# Altium footprint library TSOP (~0.6mm Pitch).PcbLib: 22 footprints (part 2 of 2)
Each footprint in its own frame and in the unit in brackets; x right, y up, seen from the top. Pads: shape width x height; smd on the part's side, far side on the other; paste and mask are expansions set on the pad; w line width, h text height; cw(c..) or ccw(c..) is an arc to the next point about the centre after c.
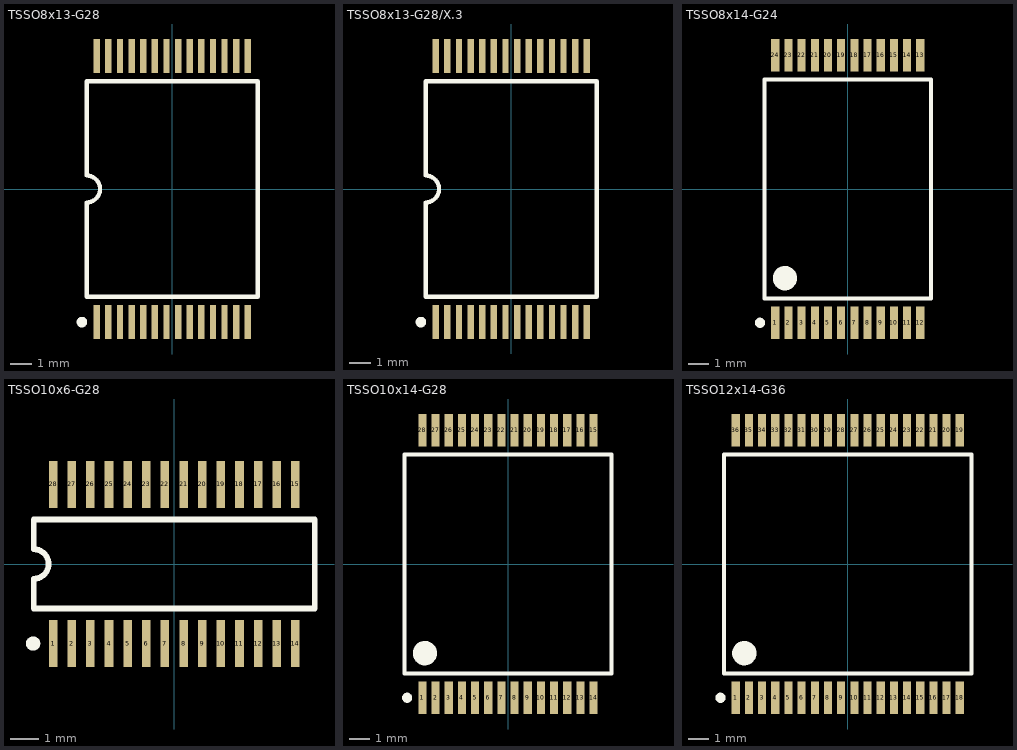
[diagram p1: the footprints below, top view; thin cyan lines are the x and y axes]

## TSSO8x13-G28 [mm] "Shrink Small Outline; 28 Leads; Body Width 11.8 mm; Pitch 0.55 mm"
height 1.2
pads (28):
  rect 0.3x1.6 smd: 1(-3.575,-6.3) 2(-3.025,-6.3) 3(-2.475,-6.3) 4(-1.925,-6.3) 5(-1.375,-6.3) 6(-0.825,-6.3) 7(-0.275,-6.3) 8(0.275,-6.3) 9(0.825,-6.3) 10(1.375,-6.3) 11(1.925,-6.3) 12(2.475,-6.3) 13(3.025,-6.3) 14(3.575,-6.3) 15(3.575,6.3) 16(3.025,6.3) 17(2.475,6.3) 18(1.925,6.3) 19(1.375,6.3) 20(0.825,6.3) 21(0.275,6.3) 22(-0.275,6.3) 23(-0.825,6.3) 24(-1.375,6.3) 25(-1.925,6.3) 26(-2.475,6.3) 27(-3.025,6.3) 28(-3.575,6.3)
Top Overlay:
  circle w0.25: c-4.275,-6.3 r0.125
  lines w0.2: -4.05,-5.1 -4.05,-0.635 ccw(c-4.05,0) -4.05,0.635 -4.05,5.1 4.05,5.1 4.05,-5.1 -4.05,-5.1

## TSSO8x13-G28/X.3 [mm] "Shrink Small Outline, Plastic, Thin; 28 Leads; Body Width 11.8 mm; Pitch 0.55 mm"
height 1.2
pads (28):
  rect 0.3x1.6 smd: 1(0.275,-6.3) 2(0.825,-6.3) 3(1.375,-6.3) 4(1.925,-6.3) 5(2.475,-6.3) 6(3.025,-6.3) 7(3.575,-6.3) 8(3.575,6.3) 9(3.025,6.3) 10(2.475,6.3) 11(1.925,6.3) 12(1.375,6.3) 13(0.825,6.3) 14(0.275,6.3) 15(-0.275,6.3) 16(-0.825,6.3) 17(-1.375,6.3) 18(-1.925,6.3) 19(-2.475,6.3) 20(-3.025,6.3) 21(-3.575,6.3) 22(-3.575,-6.3) 23(-3.025,-6.3) 24(-2.475,-6.3) 25(-1.925,-6.3) 26(-1.375,-6.3) 27(-0.825,-6.3) 28(-0.275,-6.3)
Top Overlay:
  circle w0.25: c-4.275,-6.3 r0.125
  lines w0.2: -4.05,-5.1 -4.05,-0.635 ccw(c-4.05,0) -4.05,0.635 -4.05,5.1 4.05,5.1 4.05,-5.1 -4.05,-5.1

## TSSO8x14-G24 [mm] "Shrink Small Outline; 24 Leads; Body Width 12.4 mm; Pitch 0.65 mm"
height 1.27
pads (24):
  rect 0.4x1.6 smd: 1(-3.575,-6.6) 2(-2.925,-6.6) 3(-2.275,-6.6) 4(-1.625,-6.6) 5(-0.975,-6.6) 6(-0.325,-6.6) 7(0.325,-6.6) 8(0.975,-6.6) 9(1.625,-6.6) 10(2.275,-6.6) 11(2.925,-6.6) 12(3.575,-6.6) 13(3.575,6.6) 14(2.925,6.6) 15(2.275,6.6) 16(1.625,6.6) 17(0.975,6.6) 18(0.325,6.6) 19(-0.325,6.6) 20(-0.975,6.6) 21(-1.625,6.6) 22(-2.275,6.6) 23(-2.925,6.6) 24(-3.575,6.6)
Top Overlay:
  circle w0.6: c-3.1,-4.4 r0.3
  circle w0.25: c-4.325,-6.6 r0.125
  lines w0.2: -4.1,-5.4 4.1,-5.4 4.1,5.4 -4.1,5.4 -4.1,-0.635 -4.1,-5.4

## TSSO10x6-G28 [mm] "Shrink Small Outline; 28 Leads; Body Width 4.4 mm; Pitch 0.65 mm"
height 1.2
pads (28):
  rect 0.3x1.65 smd: 1(-4.225,-2.775) 2(-3.575,-2.775) 3(-2.925,-2.775) 4(-2.275,-2.775) 5(-1.625,-2.775) 6(-0.975,-2.775) 7(-0.325,-2.775) 8(0.325,-2.775) 9(0.975,-2.775) 10(1.625,-2.775) 11(2.275,-2.775) 12(2.925,-2.775) 13(3.575,-2.775) 14(4.225,-2.775) 15(4.225,2.775) 16(3.575,2.775) 17(2.925,2.775) 18(2.275,2.775) 19(1.625,2.775) 20(0.975,2.775) 21(0.325,2.775) 22(-0.325,2.775) 23(-0.975,2.775) 24(-1.625,2.775) 25(-2.275,2.775) 26(-2.925,2.775) 27(-3.575,2.775) 28(-4.225,2.775)
Top Overlay:
  circle w0.25: c-4.925,-2.775 r0.125
  lines w0.2: -4.9,-1.55 4.9,-1.55 4.9,1.55 -4.9,1.55 -4.9,0.517 cw(c-4.9,0) -4.9,-0.517 -4.9,-1.55

## TSSO10x14-G28 [mm] "Shrink Small Outline; 28 Leads; Body Width 12.4 mm; Pitch 0.65 mm"
height 1.27
pads (28):
  rect 0.4x1.6 smd: 1(-4.225,-6.6) 2(-3.575,-6.6) 3(-2.925,-6.6) 4(-2.275,-6.6) 5(-1.625,-6.6) 6(-0.975,-6.6) 7(-0.325,-6.6) 8(0.325,-6.6) 9(0.975,-6.6) 10(1.625,-6.6) 11(2.275,-6.6) 12(2.925,-6.6) 13(3.575,-6.6) 14(4.225,-6.6) 15(4.225,6.6) 16(3.575,6.6) 17(2.925,6.6) 18(2.275,6.6) 19(1.625,6.6) 20(0.975,6.6) 21(0.325,6.6) 22(-0.325,6.6) 23(-0.975,6.6) 24(-1.625,6.6) 25(-2.275,6.6) 26(-2.925,6.6) 27(-3.575,6.6) 28(-4.225,6.6)
Top Overlay:
  circle w0.6: c-4.1,-4.4 r0.3
  circle w0.25: c-4.975,-6.6 r0.125
  lines w0.2: -5.1,-5.4 5.1,-5.4 5.1,5.4 -5.1,5.4 -5.1,-0.635 -5.1,-5.4

## TSSO12x14-G36 [mm] "Shrink Small Outline; 36 Leads; Body Width 12.4 mm; Pitch 0.65 mm"
height 1.27
pads (36):
  rect 0.4x1.6 smd: 1(-5.525,-6.6) 2(-4.875,-6.6) 3(-4.225,-6.6) 4(-3.575,-6.6) 5(-2.925,-6.6) 6(-2.275,-6.6) 7(-1.625,-6.6) 8(-0.975,-6.6) 9(-0.325,-6.6) 10(0.325,-6.6) 11(0.975,-6.6) 12(1.625,-6.6) 13(2.275,-6.6) 14(2.925,-6.6) 15(3.575,-6.6) 16(4.225,-6.6) 17(4.875,-6.6) 18(5.525,-6.6) 19(5.525,6.6) 20(4.875,6.6) 21(4.225,6.6) 22(3.575,6.6) 23(2.925,6.6) 24(2.275,6.6) 25(1.625,6.6) 26(0.975,6.6) 27(0.325,6.6) 28(-0.325,6.6) 29(-0.975,6.6) 30(-1.625,6.6) 31(-2.275,6.6) 32(-2.925,6.6) 33(-3.575,6.6) 34(-4.225,6.6) 35(-4.875,6.6) 36(-5.525,6.6)
Top Overlay:
  circle w0.6: c-5.1,-4.4 r0.3
  circle w0.25: c-6.275,-6.6 r0.125
  lines w0.2: -6.1,-5.4 6.1,-5.4 6.1,5.4 -6.1,5.4 -6.1,-0.635 -6.1,-5.4